# Altium schematic symbol library LM3671.Schlib: 1 symbol
Pins are listed as number, name and electrical type; pins without a type are passive.

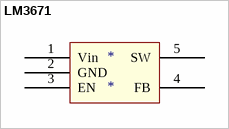
[diagram p0: symbol LM3671]

## LM3671
designator *
2MHz 600mA buck
pins: 1 Vin, 2 GND, 3 EN, 4 FB, 5 SW